# EAGLE library part MA04-2 (library we-con)
Pin Header
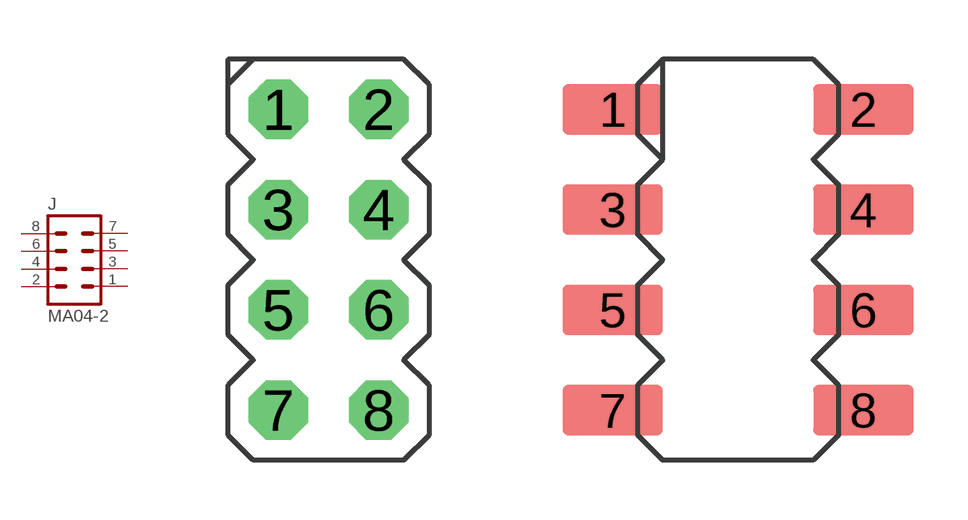
[diagram p2: symbol with the pads of MA04-2; footprints MA04-2, MA04-2_SMD]

Designator prefix J

## MA04-2  [MA04-2]
1  1  pas
2  2  pas
3  3  pas
4  4  pas
5  5  pas
6  6  pas
7  7  pas
8  8  pas

## MA04-2S  [MA04-2_SMD]
Pads as for MA04-2

## Footprint MA04-2 (pad centres in mm)
drill 1 octagon: 1 -1.27,3.81; 2 1.27,3.81; 3 -1.27,1.27; 4 1.27,1.27; 5 -1.27,-1.27; 6 1.27,-1.27; 7 -1.27,-3.81; 8 1.27,-3.81

## Footprint MA04-2_SMD (pad centres in mm)
smd 2.54 x 1.27: 1 -3.175,3.81; 2 3.175,3.81; 3 -3.175,1.27; 4 3.175,1.27; 5 -3.175,-1.27; 6 3.175,-1.27; 7 -3.175,-3.81; 8 3.175,-3.81